# EAGLE library part TPS61085 (library usb)
STEP-UP DC-DC CONVERTER 650 kHz /1.2 MHz 18.5V 2A
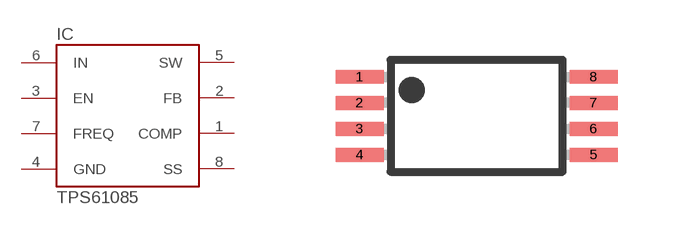
[diagram p5: symbol with the pads of TSSOP8; footprint TSSOP8]

Designator prefix IC

## TPS61085  [TSSOP8]
1  COMP
2  FB  in
3  EN  in
4  GND  sup
5  SW
6  IN  pwr
7  FREQ  in
8  SS  pas

## Footprint TSSOP8 (pad centres in mm)
Plastic Small Outline
smd 1.2 x 0.35: 1 -2.925,0.975; 2 -2.925,0.325; 3 -2.925,-0.325; 4 -2.925,-0.975; 5 2.925,-0.975; 6 2.925,-0.325; 7 2.925,0.325; 8 2.925,0.975